# Altium schematic symbol library PCB_Project1.SCHLIB: 39 symbols
Pins are listed as number, name and electrical type; pins without a type are passive.

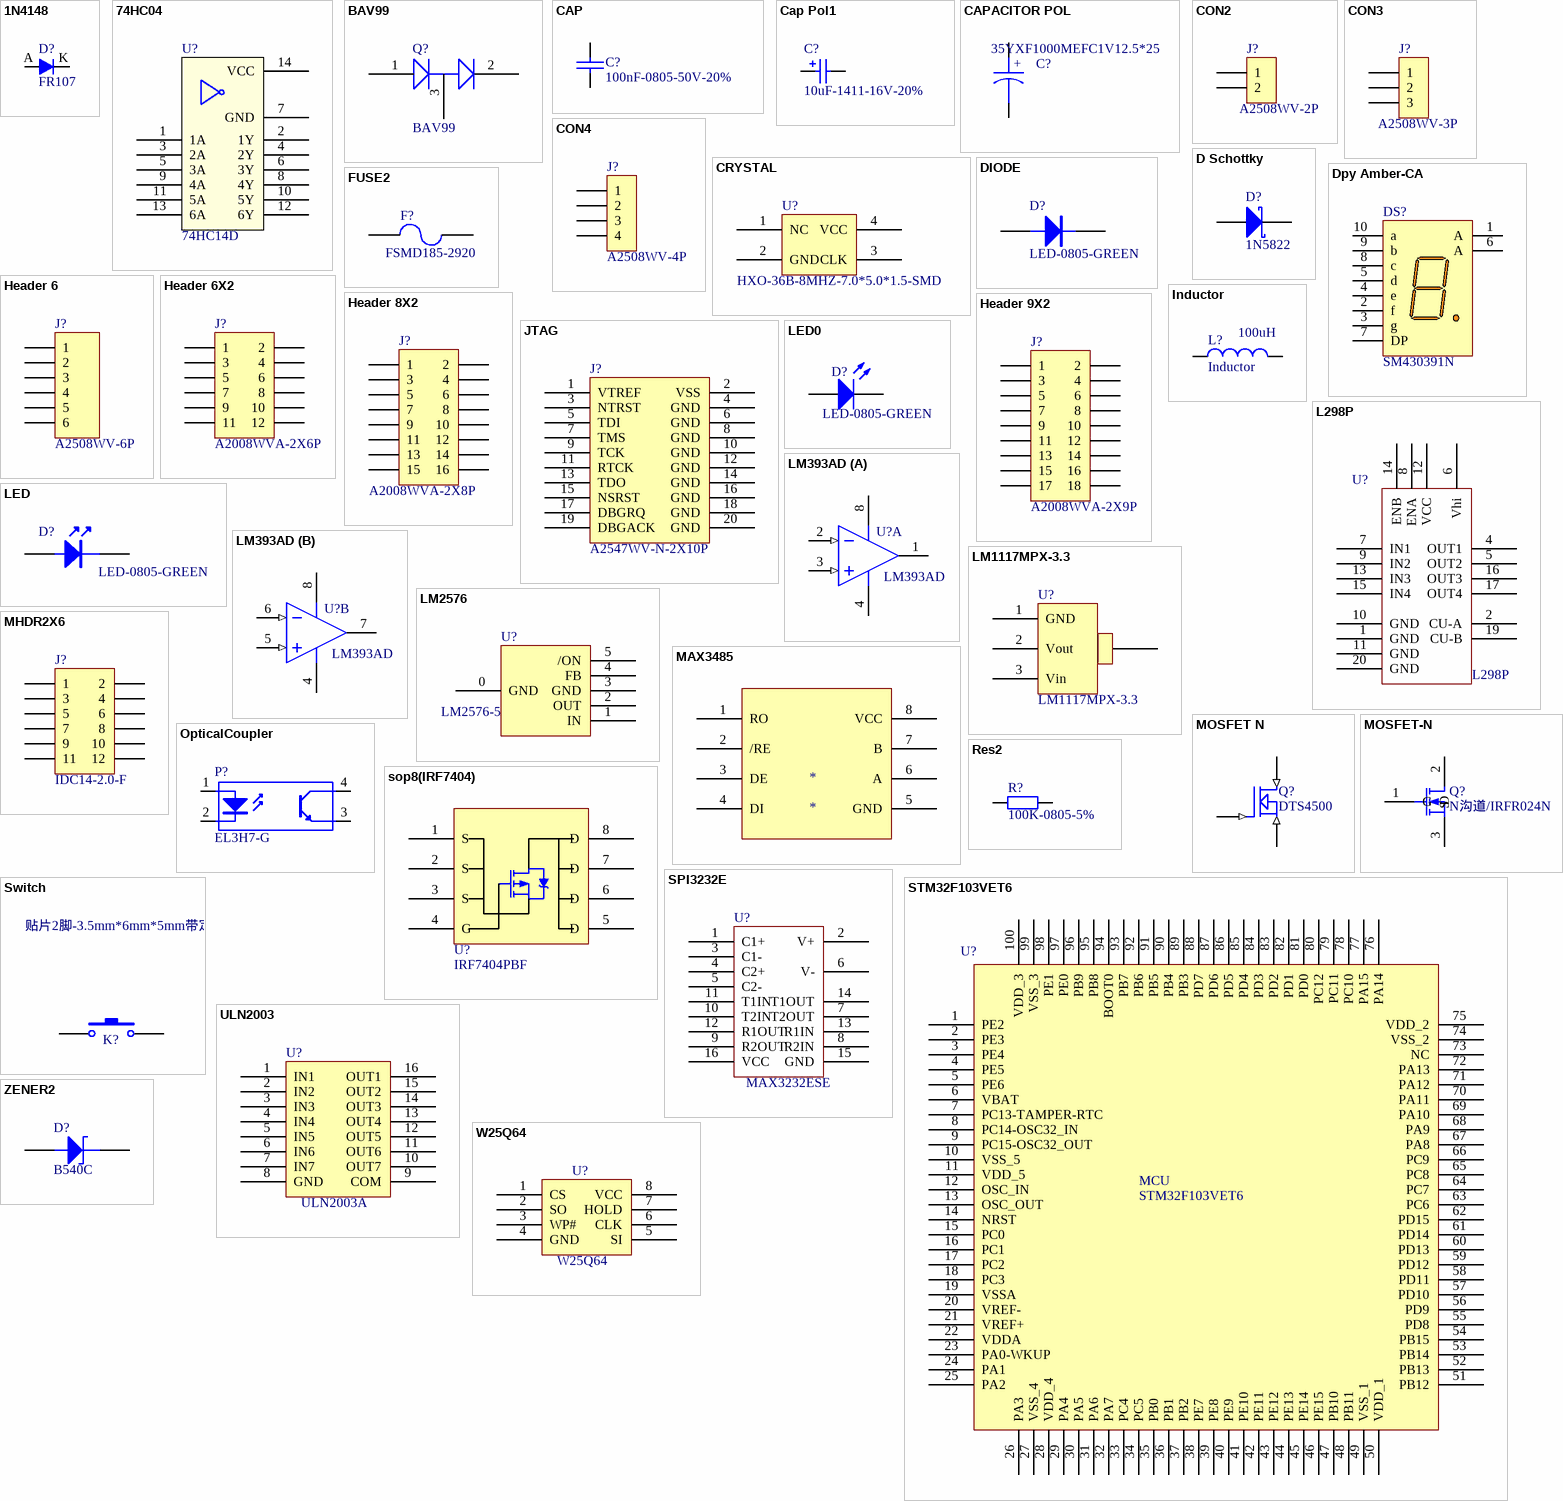
[diagram p0: symbols 1N4148 to ZENER2]

## 1N4148
designator D?, comment FR107
footprint DO-214AC
pins: A, K

## 74HC04
designator U?, comment 74HC14D
Hex Inverters
footprint SO-14
pins: 1 1A, 2 1Y, 3 2A, 4 2Y, 5 3A, 6 3Y, 7 GND, 8 4Y, 9 4A, 10 5Y, 11 5A, 12 6Y, 13 6A, 14 VCC

## BAV99
designator Q?
footprint SOT-23
pins: 1, 2, 3
2 alternate drawings of the same symbol

## CAP
designator C?, comment 100nF-0805-50V-20%
Capacitor
footprint 0805
pins: 1, 2
2 alternate drawings of the same symbol

## Cap Pol1
designator C?, comment 10uF-1411-16V-20%
Polarized Capacitor (Radial); Published: 8-Jun-2000; LatestRevisionDate: 17-Jul-2002; LatestRevisionNote: Re-released for DXP Platform.; PackageReference: RB7.6-15; Publisher: Altium Limited; Value: 10uF-1411-16V-20%
footprint 1411-B
pins: 1, 2
1 alternate drawing of the same symbol

## CAPACITOR POL
designator C?, comment 35YXF1000MEFC1V12.5*25
Capacitor
footprint RB.2/.4
pins: 1, 2
text: +

## CON2
designator J?, comment A2508WV-2P
footprint 2.5-2P  180 JXT
pins: 1, 2

## CON3
designator J?, comment A2508WV-3P
Connector
footprint H3
pins: 1, 2, 3
2 alternate drawings of the same symbol

## CON4
designator J?, comment A2508WV-4P
Connector
footprint W143-4
pins: 1, 2, 3, 4
2 alternate drawings of the same symbol

## CRYSTAL
designator U?, comment HXO-36B-8MHZ-7.0*5.0*1.5-SMD
footprint OSC_4_S
pins: 1 NC, 2 GND, 3 CLK, 4 VCC

## D Schottky
designator D?, comment 1N5822
Schottky Diode; Published: 8-Jun-2000; LatestRevisionDate: 17-Jul-2002; LatestRevisionNote: Re-released for DXP Platform.; Publisher: Altium Limited; Code_JEDEC: DO-214-AA
simulation model SKYDIODE (Diode)
signal-integrity model D Schottky
footprint IN5822 SMT
pins: 1 A, 2 K

## DIODE
designator D?, comment LED-0805-GREEN
Diode
footprint SML-A12MT
footprint LED-0805
pins: 1 A, 2 K

## Dpy Amber-CA
designator DS?, comment SM430391N
7.62 mm Black Surface Orange 7-Segment Display: CA, RH DP; MinimumIntensity: 354 ucd; Note: IF = 5 mA; Note: Pins 1 and 6 are redundant Anodes.; Published: 8-Jun-2000; LatestRevisionDate: 17-Dec-2003; LatestRevisionNote: Schematic revised, PCB Footprint replaced.; DatasheetDocument: 19-Feb-2002; PackageDocument: 19-Feb-2002; PackageReference: LEDDIP-10; Publisher: Altium Limited; Colour: Orange; ComponentLink1Description: Manufacturer Link; ComponentLink1URL: http://www.agilent.com/
footprint LEDDIP-10 (LED, 7-Segment Display, 7.62 mm, RHD; 10 Leads; Row Space 5.08 mm; Pitch 2.54 mm)
pins: 1 A, 2 f, 3 g, 4 e, 5 d, 6 A, 7 DP, 8 c, 9 b, 10 a
2 alternate drawings of the same symbol

## FUSE2
designator F?, comment FSMD185-2920
Fuse
footprint 2920
pins: 1, 2

## Header 6
designator J?, comment A2508WV-6P
Header, 6-Pin; LatestRevisionDate: 17-Jul-2002; LatestRevisionNote: Re-released for DXP Platform.; Publisher: Altium Limited
footprint W143-6
signal-integrity model Connector
pins: 1, 2, 3, 4, 5, 6

## Header 6X2
designator J?, comment A2008WVA-2X6P
Header, 6-Pin, Dual row; LatestRevisionDate: 17-Jul-2002; LatestRevisionNote: Re-released for DXP Platform.; Publisher: Altium Limited
footprint A2008WVA-2X6P (Connector; Header; 8x2 Position)
signal-integrity model Connector
pins: 1, 2, 3, 4, 5, 6, 7, 8, 9, 10, 11, 12

## Header 8X2
designator J?, comment A2008WVA-2X8P
Header, 8-Pin, Dual row; LatestRevisionDate: 17-Jul-2002; LatestRevisionNote: Re-released for DXP Platform.; Publisher: Altium Limited
footprint A2008WVA-2X8P (Connector; Header; 8x2 Position)
signal-integrity model Connector
pins: 1, 2, 3, 4, 5, 6, 7, 8, 9, 10, 11, 12, 13, 14, 15, 16

## Header 9X2
designator J?, comment A2008WVA-2X9P
Header, 9-Pin, Dual row; LatestRevisionDate: 17-Jul-2002; LatestRevisionNote: Re-released for DXP Platform.; Publisher: Altium Limited
footprint A2008WVA-2X9P (Connector; Header; 8x2 Position)
signal-integrity model Connector
pins: 1, 2, 3, 4, 5, 6, 7, 8, 9, 10, 11, 12, 13, 14, 15, 16, 17, 18

## Inductor
designator L?  value 100uH
Code_IEC: 1005; Published: 8-Jun-2000; LatestRevisionDate: 17-Jul-2002; LatestRevisionNote: Re-released for DXP Platform.; PackageReference: 0402-A; Publisher: Altium Limited; Code_JEITA: 0402
simulation model INDUCTOR (Inductor)
signal-integrity model Inductor
footprint Inductor SMT7
pins: 1, 2

## JTAG
designator J?, comment A2547WV-N-2X10P
footprint JTAG_20
pins: 1 VTREF, 2 VSS, 3 NTRST, 4 GND, 5 TDI, 6 GND, 7 TMS, 8 GND, 9 TCK, 10 GND, 11 RTCK, 12 GND, 13 TDO, 14 GND, 15 NSRST, 16 GND, 17 DBGRQ, 18 GND, 19 DBGACK, 20 GND

## L298P
designator U?
footprint POWERSO20_N (SOP, 20-Leads, Body 15.9x11mm, Pitch 1.27mm, IPC Medium Density)
pins: 1 GND, 2 CU-A, 4 OUT1, 5 OUT2, 6 Vhi, 7 IN1, 8 ENA, 9 IN2, 10 GND, 11 GND, 12 VCC, 13 IN3, 14 ENB, 15 IN4, 16 OUT3, 17 OUT4, 19 CU-B, 20 GND
2 alternate drawings of the same symbol

## LED
designator D?, comment LED-0805-GREEN
footprint LED-0805
pins: 1 A, 2 K
2 alternate drawings of the same symbol

## LED0
designator D?, comment LED-0805-GREEN
Typical INFRARED GaAs LED; Published: 8-Jun-2000; LatestRevisionDate: 08-Jul-2005; LatestRevisionNote: Mech Layer 1 removed.; PackageReference: LED-0; Publisher: Altium Limited
footprint LED-0805
pins: 1 A, 2 K

## LM393AD
designator U?
Low-Power Dual Voltage Comparator; Published: 24-Aug-2001; LatestRevisionDate: 13-Apr-2006; LatestRevisionNote: IPC-7351 Footprint Added.; DatasheetVersion: Nov-1992; PackageVersion: Dec-2002; PackageReference: SO8; Publisher: Altium Limited; PackageDescription: 8-Pin Small Outline Integrated Circuit 1.27 mm Pitch; Code_JEDEC: MS-012-AA; Code_IPC: SOIC127P600-8; ComponentLink1Description: Manufacturer Link; ComponentLink1URL: http://www.st.com/; ComponentLink2Description: Datasheet; ComponentLink2URL: http://www.st.com/stonline/products/literature/ds/2164/lm193.pdf
footprint SO8_N
footprint SO8_L
footprint SO8_M
footprint SO-8
part A pins: 1 OUT (oc), 2 IN- (in), 3 IN+ (in), 4 V- (power), 8 V+ (power)
part B pins: 4 V- (power), 5 IN+ (in), 6 IN- (in), 7 OUT (oc), 8 V+ (power)
2 alternate drawings of the same symbol

## LM1117MPX-3.3
designator U?
footprint SOT-223-3L (LM1117)
pins: 1 GND, 2 Vout, 3 Vin, 4

## LM2576
designator U?, comment LM2576-5
TO-263
footprint TO-263
pins: 0 GND, 1 IN, 2 OUT, 3 GND, 4 FB, 5 /ON

## MAX3485
designator *
pins: 1 RO, 2 /RE, 3 DE, 4 DI, 5 GND, 6 A, 7 B, 8 VCC

## MHDR2X6
designator J?, comment IDC14-2.0-F
Header, 6-Pin, Dual row; LatestRevisionDate: 17-Jul-2002; LatestRevisionNote: Re-released for DXP Platform.; Publisher: Altium Limited
footprint MHDR2X6 (Connector; Header; 6x2 Position)
signal-integrity model Connector
pins: 1, 2, 3, 4, 5, 6, 7, 8, 9, 10, 11, 12

## MOSFET N
designator Q?, comment DTS4500
footprint SOT-23
pins: 1 G (in), 2 S (in), 3 D (in)
2 alternate drawings of the same symbol

## MOSFET-N
designator Q?, comment N沟道/IRFR024N
N-Channel MOSFET; Published: 8-Jun-2000; LatestRevisionDate: 17-Jul-2002; LatestRevisionNote: Re-released for DXP Platform.; PackageVersion: 1995/1996; PackageReference: E3; Publisher: Altium Limited; PackageDescription: TO, Flat Index; 3 In-Line, Axial Leads; Body Dia. 4.6mm; Lead Dia. 0.5 mm (max)
footprint TO-252AA
simulation model NMOS (MOSFET-N)
pins: 1 G, 2 D, 3 S

## OpticalCoupler
designator P?, comment EL3H7-G
OpticalCoupler
footprint SSOP4
pins: 1 A "Anode", 2 K "Cathode", 3 E "Emitter", 4 C "Collector"

## Res2
designator R?, comment 100K-0805-5%
Resistor; Published: 8-Jun-2000; LatestRevisionDate: 17-Jul-2002; LatestRevisionNote: Re-released for DXP Platform.; PackageReference: AXIAL-0.4; Publisher: Altium Limited
footprint 0805
pins: 1, 2

## sop8(IRF7404)
designator U?, comment IRF7404PBF
footprint SOIC8_M
footprint SO-8
pins: 1 S, 2 S, 2 D, 3 S, 4 G, 5 D, 6 D, 7 D, 8 D
2 alternate drawings of the same symbol

## SPI3232E
designator U?, comment MAX3232ESE
footprint SOIC-16
pins: 1 C1+, 2 V+, 3 C1-, 4 C2+, 5 C2-, 6 V-, 7 T2OUT, 8 R2IN, 9 R2OUT, 10 T2IN, 11 T1IN, 12 R1OUT, 13 R1IN, 14 T1OUT, 15 GND, 16 VCC

## STM32F103VET6
designator U?, comment MCU  value STM32F103VET6
footprint LQFP100_N (Thin QFP, 100-Leads, Body 14x14mm, Pitch 0.5mm, IPC Medium Density)
pins: 1 PE2, 2 PE3, 3 PE4, 4 PE5, 5 PE6, 6 VBAT, 7 PC13-TAMPER-RTC, 8 PC14-OSC32_IN, 9 PC15-OSC32_OUT, 10 VSS_5, 11 VDD_5, 12 OSC_IN, 13 OSC_OUT, 14 NRST, 15 PC0, 16 PC1, 17 PC2, 18 PC3, 19 VSSA, 20 VREF-, 21 VREF+, 22 VDDA, 23 PA0-WKUP, 24 PA1, 25 PA2, 26 PA3, 27 VSS_4, 28 VDD_4, 29 PA4, 30 PA5, 31 PA6, 32 PA7, 33 PC4, 34 PC5, 35 PB0, 36 PB1, 37 PB2, 38 PE7, 39 PE8, 40 PE9, 41 PE10, 42 PE11, 43 PE12, 44 PE13, 45 PE14, 46 PE15, 47 PB10, 48 PB11, 49 VSS_1, 50 VDD_1, 51 PB12, 52 PB13, 53 PB14, 54 PB15, 55 PD8, 56 PD9, 57 PD10, 58 PD11, 59 PD12, 60 PD13, 61 PD14, 62 PD15, 63 PC6, 64 PC7, 65 PC8, 66 PC9, 67 PA8, 68 PA9, 69 PA10, 70 PA11, 71 PA12, 72 PA13, 73 NC, 74 VSS_2, 75 VDD_2, 76 PA14, 77 PA15, 78 PC10, 79 PC11, 80 PC12, 81 PD0, 82 PD1, 83 PD2, 84 PD3, 85 PD4, 86 PD5, 87 PD6, 88 PD7, 89 PB3, 90 PB4, 91 PB5, 92 PB6, 93 PB7, 94 BOOT0, 95 PB8, 96 PB9, 97 PE0, 98 PE1, 99 VSS_3, 100 VDD_3

## Switch
designator K?, comment 贴片2脚-3.5mm*6mm*5mm带定位
Switch
footprint BUTTON2
pins: 1, 2

## ULN2003
designator U?, comment ULN2003A
Darlinton BJT Array
footprint SO-16
pins: 1 IN1, 2 IN2, 3 IN3, 4 IN4, 5 IN5, 6 IN6, 7 IN7, 8 GND, 9 COM, 10 OUT7, 11 OUT6, 12 OUT5, 13 OUT4, 14 OUT3, 15 OUT2, 16 OUT1

## W25Q64
designator U?
footprint SO-8M
pins: 1 CS, 2 SO, 3 WP#, 4 GND, 5 SI, 6 CLK, 7 HOLD, 8 VCC

## ZENER2
designator D?, comment B540C
Zener Diode
footprint SMC
pins: 1 A, 2 K
2 alternate drawings of the same symbol